# Altium schematic symbol library SCH - CRYSTALS - ECS ECS-TXO-25CSMV.SCHLIB: 1 symbol
Pins are listed as number, name and electrical type; pins without a type are passive.

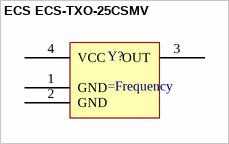
[diagram p0: symbol ECS ECS-TXO-25CSMV]

## ECS ECS-TXO-25CSMV
designator Y?
SMD TCXO
pins: 1 GND, 2 GND, 3 OUT, 4 VCC